# EAGLE library part CONN-8P (library pinconn)
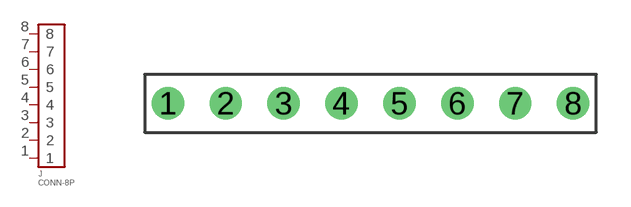
[diagram p6: symbol with the pads of CONN-8P; footprint CONN-8P]

Designator prefix J

## CONN-8P  [CONN-8P]
1  1  pas
2  2  pas
3  3  pas
4  4  pas
5  5  pas
6  6  pas
7  7  pas
8  8  pas

## Footprint CONN-8P (pad centres in mm)
drill 0.9 pad 1.422: 1 0,0; 2 2.54,0; 3 5.08,0; 4 7.62,0; 5 10.16,0; 6 12.7,0; 7 15.24,0; 8 17.78,0